# Altium footprint library MIC2289.PcbLib: 1 footprints
Each footprint in its own frame and in the unit in brackets; x right, y up, seen from the top. Pads: shape width x height; smd on the part's side, far side on the other; paste and mask are expansions set on the pad; w line width, h text height; cw(c..) or ccw(c..) is an arc to the next point about the centre after c.
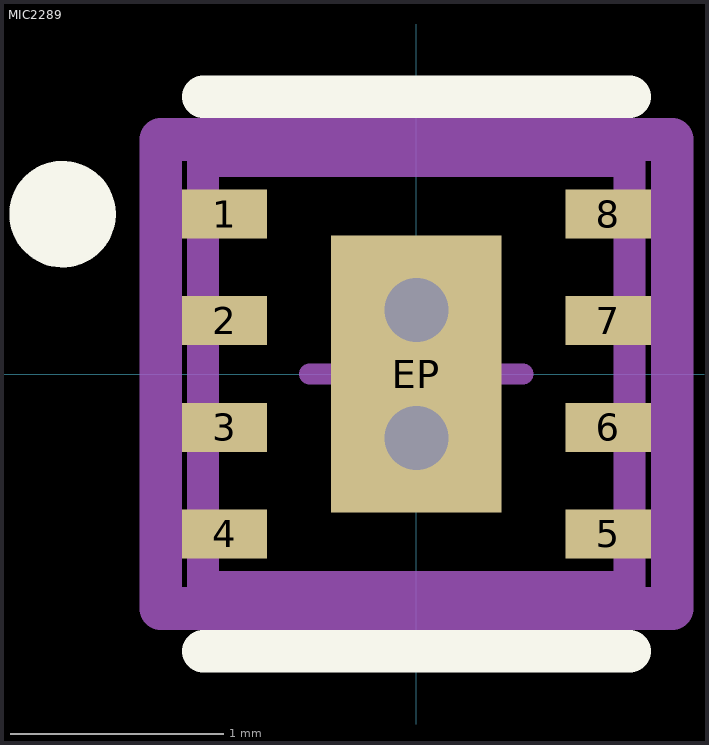
[diagram p0: the footprint, top view; thin cyan lines are the x and y axes]

## MIC2289 [mm]
pads (9):
  rect 0.4x0.23 smd paste+0 mask+0: 1(-0.9,0.75) 2(-0.9,0.25) 3(-0.9,-0.25) 4(-0.9,-0.75) 5(0.9,-0.75) 6(0.9,-0.25) 7(0.9,0.25) 8(0.9,0.75)
  rect 0.8x1.3 smd paste+0 mask+0: EP(0,0)
via 0,0.3 diameter 0.6 hole 0.3
via 0,-0.3 diameter 0.6 hole 0.3
Top Overlay:
  circle w0.25: c-1.66,0.75 r0.125
  lines w0.2: -1,-1.3 1,-1.3 ; -1,1.3 1,1.3
Mechanical 10:
  lines w0.2: -1.2,-1.1 -1.2,1.1 1.2,1.1 1.2,-1.1 -1.2,-1.1
  text ".Designator" at 0,0 h1
Mechanical 12:
  lines w0.15: -1,-1 -1,1 1,1 1,-1 -1,-1
Mechanical 15:
  lines w0.1: -0.5,0 0.5,0 ; 0,-0.5 0,0.5
  lines w0.2: -1.2,-1.1 -1.2,1.1 1.2,1.1 1.2,-1.1 -1.2,-1.1
3D body "3dmodel.step": height 0.25, standoff 0, extent -1.2,-1.1 1.2,1.1